# Altium integrated library ZF5S-50-01-T-WT.IntLib: 1 symbol
Pins are listed as number, name and electrical type; pins without a type are passive.

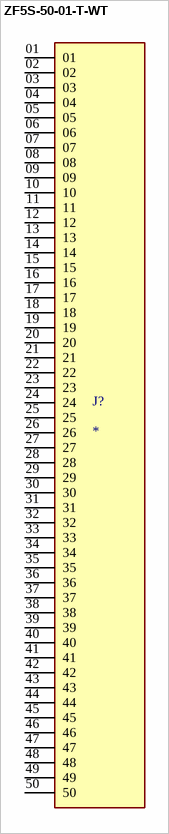
[diagram p0: symbol ZF5S-50-01-T-WT]

## ZF5S-50-01-T-WT
designator J?
MP: ZF5S-50-01-T-WT; Package: None; Availability: Unavailable; Value: *; Price: None
footprint SAMTEC_ZF5S-50-01-T-WT
pins: 01, 02, 03, 04, 05, 06, 07, 08, 09, 10, 11, 12, 13, 14, 15, 16, 17, 18, 19, 20, 21, 22, 23, 24, 25, 26, 27, 28, 29, 30, 31, 32, 33, 34, 35, 36, 37, 38, 39, 40, 41, 42, 43, 44, 45, 46, 47, 48, 49, 50